# Altium schematic symbol library SMW5R22JT.SchLib: 1 symbol
Pins are listed as number, name and electrical type; pins without a type are passive.

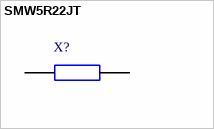
[diagram p0: symbol SMW5R22JT]

## SMW5R22JT
designator X?
TE Connectivity SMW Series Wire Wound High Power Surface Mount Resistor 220m +/-5% 5W +/-200ppm/C; Geometry.Height: 7.1mm; Manufacturer_Name: TE Connectivity; Manufacturer_Part_Number: SMW5R22JT; Mouser Part Number: 571-SMW5R22JT; Mouser Price/Stock: https://www.mouser.co.uk/ProductDetail/TE-Connectivity-PB/SMW5R22JT?qs=qLl%252Bu6Y%2FBlLSsbkYwJVpSQ%3D%3D; Arrow Part Number: SMW5R22JT; Arrow Price/Stock: https://www.arrow.com/en/products/smw5r22jt/te-connectivity; Mouser Testing Part Number: *; Mouser Testing Price/Stock: *; Datasheet Link: https://datasheet.datasheetarchive.com/originals/distributors/DKDS42/DSANUWW0051571.pdf
footprint RESM17073X710N
pins: 1, 2